# Altium integrated library RJ45_LED.IntLib: 1 symbol
Pins are listed as number, name and electrical type; pins without a type are passive.

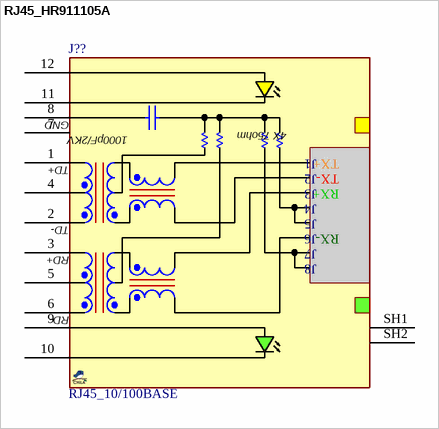
[diagram p0: symbol RJ45_HR911105A]

## RJ45_HR911105A
designator J??, comment RJ45_10/100BASE
RJ45, 10/100BASE, G/Y LED; MANF: Hanrun; MANF_P#: HR911105A; PARAM2: 10/100BASE, G/Y LED; VALUE: RJ45_10/100BASE
footprint RJ45_8M_HR911105A (RJ45, 10/100BASE, HR911105A WITH G/Y LED)
pins: 1 TD+, 2 TD-, 3 RD+, 4 TCT, 5 RCT, 6 RD-, 7 NC, 8 CHSGND, 9 GLED+, 10 GLED-, 11 YLED-, 12 YLED+, SH1, SH2
text: GND; 4X 75ohm; 1000pF/2KV; J1; TX+; J2; TX-; J3; RX+; J4; J5; J6; RX-; J7; J8